# Altium footprint library libreriaPcb.PcbLib: 683 footprints (part 43 of 44)
Each footprint in its own frame and in the unit in brackets; x right, y up, seen from the top. Pads: shape width x height; smd on the part's side, far side on the other; paste and mask are expansions set on the pad; w line width, h text height; cw(c..) or ccw(c..) is an arc to the next point about the centre after c.
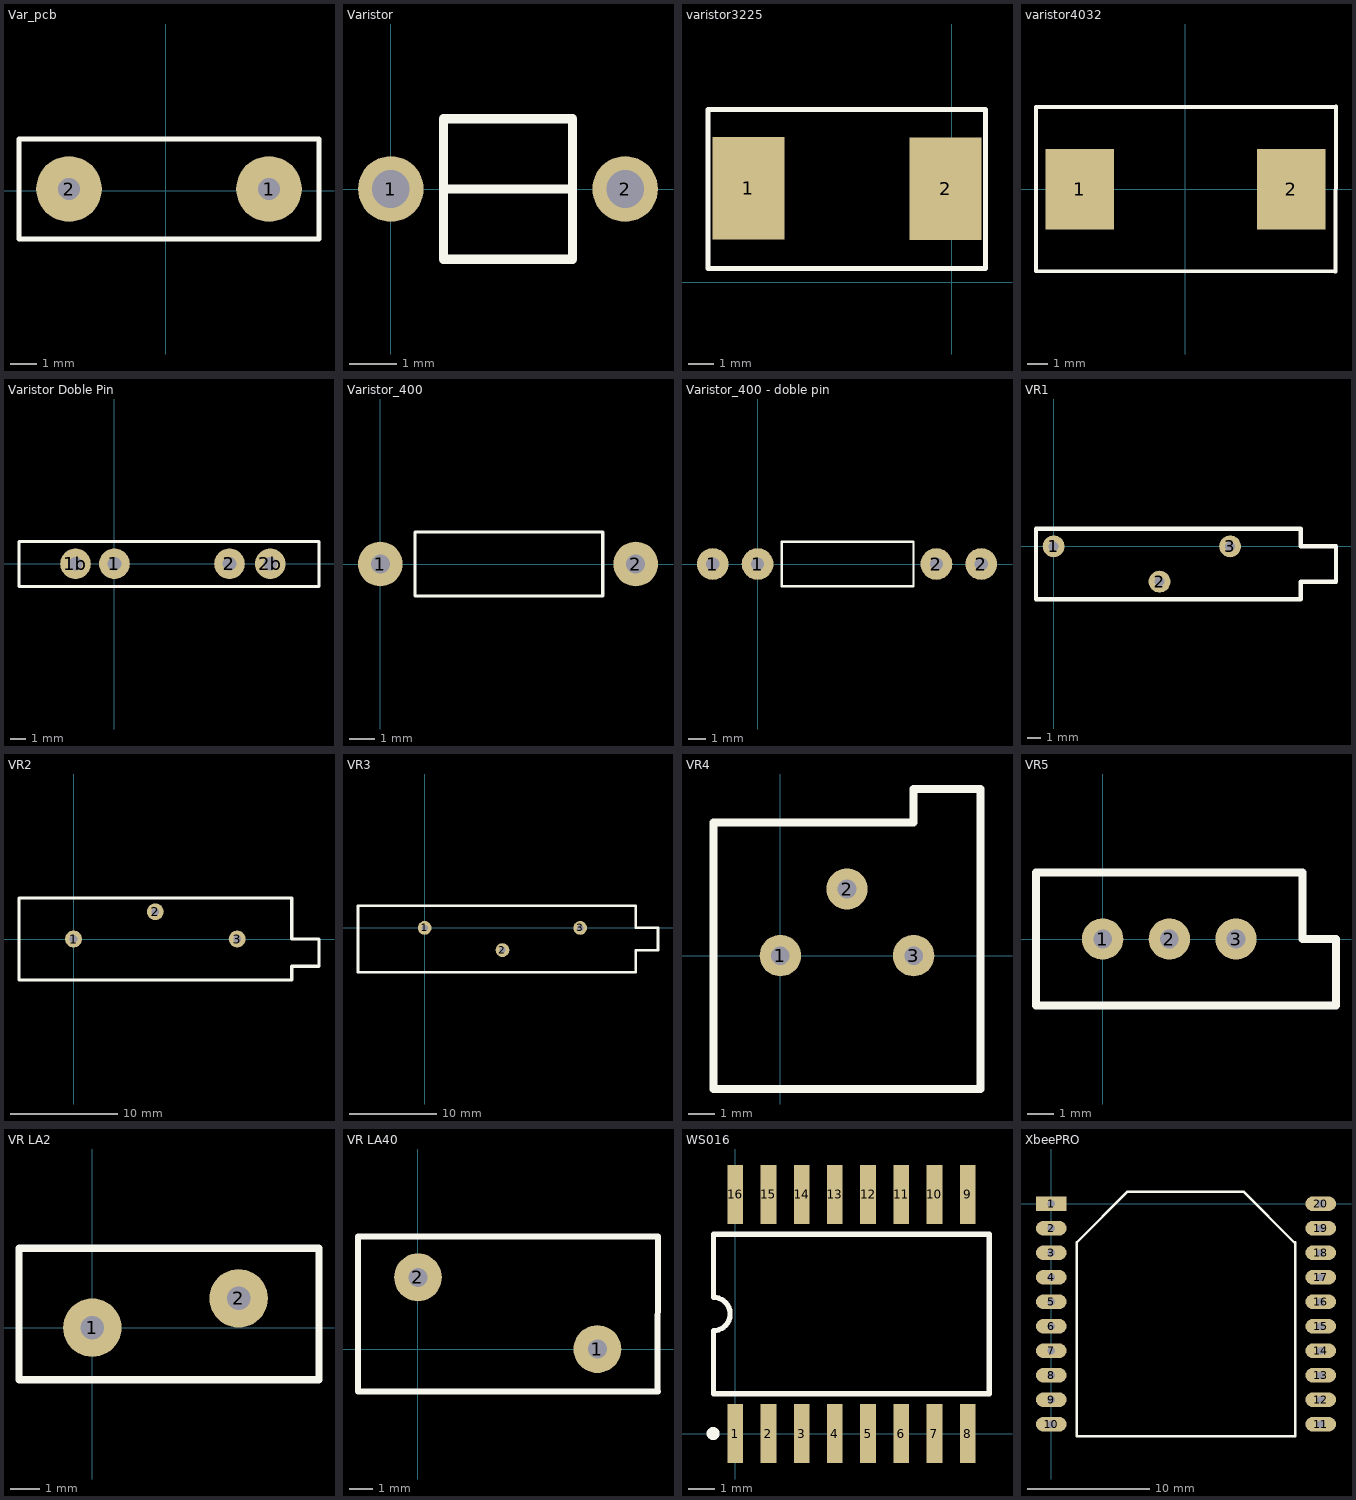
[diagram p42: the footprints below, top view; thin cyan lines are the x and y axes]

## Var_pcb [mm]
pads (2):
  round 2.5 hole 0.85: 1(3.928,0.068) 2(-3.692,0.068)
Top Overlay:
  lines w0.2: -5.597,-1.837 -5.597,1.973 5.833,1.973 5.833,-1.837 -5.597,-1.837
3D body: height 6, standoff 0, extent 3.528,-0.331 4.328,0.468
3D body: height 6, standoff 0, extent -4.092,-0.331 -3.292,0.468
3D body: height 15, standoff 3, extent -5.847,-1.304 6.153,1.296

## Varistor [mm]
pads (2):
  round 1.4 hole 0.8: 1(0,0) 2(5,0)
Top Overlay:
  lines w0.2: 1.125,0 3.6,0 ; 1.4,0 3.875,0 ; 3.875,0 3.875,-1.5 1.125,-1.5 1.125,1.5 3.875,1.5 3.875,0
3D body: height 2, standoff 0, extent 1.025,-1.6 3.975,1.6

## varistor3225 [mm]
pads (2):
  rect 2.8x4 smd: 1(-7.92,3.67) 2(-0.23,3.65)
Top Overlay:
  lines w0.2: -9.49,0.54 -9.49,6.73 1.32,6.73 1.32,0.54 -9.49,0.54

## varistor4032 [mm]
pads (2):
  rect 3.4x4 smd: 1(-5.25,0) 2(5.25,0)
Top Overlay:
  lines w0.2: -7.43,4.08 -7.43,-4.07 7.44,-4.08 ; -7.42,4.09 7.48,4.09 ; 7.46,-4.08 7.47,4.1

## Varistor Doble Pin [mm]
pads (4):
  round 2 hole 0.9: 1(0,0) 1b(-2.54,0) 2(7.5,0) 2b(10.16,0)
Top Overlay:
  lines w0.203: -6.223,-1.473 13.335,-1.473 13.335,1.448 -6.223,1.448 -6.223,-1.473
3D body: height 19.92, standoff 0, extent -6.475,-2.108 13.485,1.892

## Varistor_400 [mil]
pads (2):
  round 70 / inner round 0 / far side round 70 hole 30 paste+0: 1(0,0) 2(400,0)
Top Overlay:
  lines w5: 54.13,-50 348.43,-50 348.43,50 54.13,50 54.13,-50
3D body: height 784.3, standoff 0, extent -192,-37.74 593.85,41

## Varistor_400 - doble pin [mm]
pads (4):
  round 1.8 hole 0.75: 1(-2.54,0) 1(0,0) 2(10.16,0) 2(12.7,0)
Top Overlay:
  lines w0.127: 1.375,-1.27 8.85,-1.27 8.85,1.27 1.375,1.27 1.375,-1.27
3D body: height 19.92, standoff 0, extent -4.877,-0.959 15.084,1.041

## VR1 [mil]
pads (3):
  round 62 hole 28: 1(0,0) 2(300,-100) 3(500,0)
Top Overlay:
  lines w12: -50,-150 -50,50 700,50 700,0 800,0 800,-100 700,-100 700,-150 -50,-150

## VR2 [mil]
pads (3):
  round 62 hole 28: 1(0,0) 2(300,100) 3(600,0)
Top Overlay:
  lines w12: -200,-150 800,-150 800,-100 900,-100 900,0 800,0 800,150 -200,150 -200,-150

## VR3 [mil]
pads (3):
  round 62 hole 28: 1(0,0) 2(350,-100) 3(700,0)
Top Overlay:
  lines w12: -300,-200 -300,100 950,100 950,0 1050,0 1050,-100 950,-100 950,-200 -300,-200

## VR4 [mil]
pads (3):
  round 62 hole 28: 1(0,0) 2(100,100) 3(200,0)
Top Overlay:
  lines w12: -100,-200 300,-200 300,250 200,250 200,200 -100,200 -100,-200

## VR5 [mil]
pads (3):
  round 62 hole 28: 1(0,0) 2(100,0) 3(200,0)
Top Overlay:
  lines w12: -100,-100 350,-100 350,0 300,0 300,100 -100,100 -100,-100

## VR LA2 [mm]
pads (2):
  round 2 hole 0.8: 1(0,0) 2(5,1)
Top Overlay:
  lines w0.254: -2.507,-1.778 7.747,-1.778 7.747,2.714 -2.507,2.714 -2.507,-1.778

## VR LA40 [mm] "V510LA40A"
pads (2):
  round 2 hole 0.8: 1(7.5,0) 2(0,3)
Top Overlay:
  lines w0.254: 10.007,-1.714 10.033,4.714 -2.507,4.714 -2.507,-1.778 10.033,-1.778

## WS016 [mm] "SMD"
pads (16):
  rect 0.6x2.25 smd: 1(0,0) 2(1.27,0) 3(2.54,0) 4(3.81,0) 5(5.08,0) 6(6.35,0) 7(7.62,0) 8(8.89,0) 9(8.89,9.15) 10(7.62,9.15) 11(6.35,9.15) 12(5.08,9.15) 13(3.81,9.15) 14(2.54,9.15) 15(1.27,9.15) 16(0,9.15)
Top Overlay:
  circle w0.25: c-0.85,0 r0.125
  lines w0.2: -0.83,1.525 -0.83,3.94 ccw(c-0.83,4.575) -0.83,5.21 -0.83,7.625 9.72,7.625 9.72,1.525 -0.83,1.525

## XbeePRO [mm]
pads (20):
  rect 2.5x1.2 hole 0.6: 1(0,0)
  oval 2.5x1.2 hole 0.6: 2(0,-2) 3(0,-4) 4(0,-6) 5(0,-8) 6(0,-10) 7(0,-12) 8(0,-14) 9(0,-16) 10(0,-18) 11(22,-18) 12(22,-16) 13(22,-14) 14(22,-12) 15(22,-10) 16(22,-8) 17(22,-6) 18(22,-4) 19(22,-2) 20(22,0)
Top Overlay:
  lines w0.2: 2.085,-3.175 2.085,-3.138 ; 19.825,-3.138 15.687,1 6.223,1 2.085,-3.138 ; 19.915,-3.138 19.915,-19 2.085,-19 ; 2.085,-19 2.085,-3.138 ; 2.085,-19 2.085,-3.138